# EAGLE library part ATP3012XX-PU (library aquest)
DIP 28 pin package
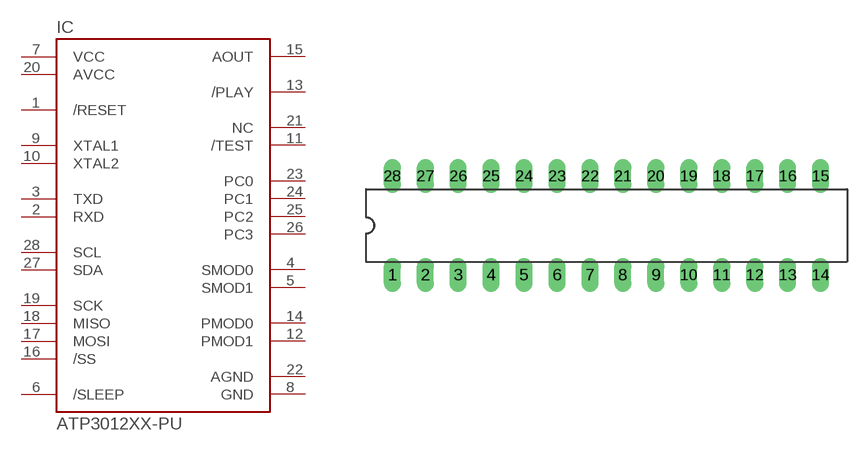
[diagram p2: symbol with the pads of DIL28-3; footprint DIL28-3]

Designator prefix IC

## ATP3012XX-PU  [DIL28-3]
1  /RESET  in
2  RXD  in
3  TXD  out
4  SMOD0  in
5  SMOD1  in
6  /SLEEP  in
7  VCC  pwr
8  GND  pwr
9  XTAL1  nc
10  XTAL2  nc
11  /TEST  in
12  PMOD1  in
13  /PLAY  out
14  PMOD0  in
15  AOUT  out
16  /SS  in
17  MOSI  in
18  MISO  out
19  SCK  in
20  AVCC  pwr
21  NC  nc
22  AGND  pwr
23  PC0  in
24  PC1  in
25  PC2  in
26  PC3  in
27  SDA
28  SCL  in

## Footprint DIL28-3 (pad centres in mm)
Dual In Line 0.3 inch
drill 0.813 long: 1 -16.51,-3.81; 2 -13.97,-3.81; 3 -11.43,-3.81; 4 -8.89,-3.81; 5 -6.35,-3.81; 6 -3.81,-3.81; 7 -1.27,-3.81; 8 1.27,-3.81; 9 3.81,-3.81; 10 6.35,-3.81; 11 8.89,-3.81; 12 11.43,-3.81; 13 13.97,-3.81; 14 16.51,-3.81; 15 16.51,3.81; 16 13.97,3.81; 17 11.43,3.81; 18 8.89,3.81; 19 6.35,3.81; 20 3.81,3.81; 21 1.27,3.81; 22 -1.27,3.81; 23 -3.81,3.81; 24 -6.35,3.81; 25 -8.89,3.81; 26 -11.43,3.81; 27 -13.97,3.81; 28 -16.51,3.81